# Altium schematic symbol library MCP1804T-3302I_OT.Schlib: 1 symbol
Pins are listed as number, name and electrical type; pins without a type are passive.

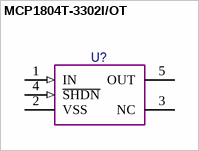
[diagram p0: symbol MCP1804T-3302I/OT]

## MCP1804T-3302I/OT
designator U?  (value not drawn)
150 mA, 28V LDO Regulator With Shutdown
pins: 1 IN (in), 2 VSS (power), 3 NC, 4 ~{SHDN} (in), 5 OUT (power)